# EAGLE library part SEN012DG (library power_integrations)
SENZero is a compact low cost solution to eliminate losses in resistive signal paths connected between high-voltage rails and switching power supply controller(s). Examples include feedforward or feedback signal paths connected to boost controllers in power factor corrected systems and feedforward signal paths in two switch forward / LLC / half and full bridge converters. The device is available in 2 (SEN012) and 3 (SEN013) channel versions according to the application’s requirements. The internal gate drive and protection circuitry provides gate drive signals to the internal 650 V MOSFETs in response to the voltage applied to the VCC pin. This simple configuration provides easy integration into existing systems by using the system VCC rail as an input to the SENZero. The SENZero family uses a low cost compact SO-8 package to reduce PCB area while the pin configuration is designed to meet pin-pin fault conditions.
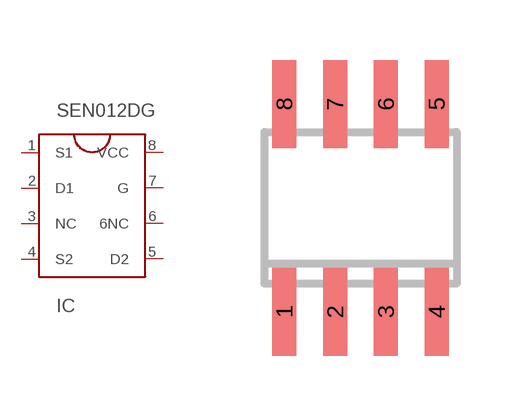
[diagram p9: symbol with the pads of SO08; footprint SO08]

Designator prefix IC

## SEN012DG  [SO08]
1  S1
2  D1
3  NC  nc
4  S2
5  D2
6  6NC  nc
7  G  pwr
8  VCC  pwr

## Footprint SO08 (pad centres in mm)
SMALL OUTLINE INTEGRATED CIRCUIT body 3.9 mm/JEDEC MS-012AA
smd 0.6 x 2.2: 1 -1.905,-2.6; 2 -0.635,-2.6; 3 0.635,-2.6; 4 1.905,-2.6; 5 1.905,2.6; 6 0.635,2.6; 7 -0.635,2.6; 8 -1.905,2.6